# Altium footprint library F429_F746_F767_MB.PcbLib: 52 footprints (part 1 of 4)
Each footprint in its own frame and in the unit in brackets; x right, y up, seen from the top. Pads: shape width x height; smd on the part's side, far side on the other; paste and mask are expansions set on the pad; w line width, h text height; cw(c..) or ccw(c..) is an arc to the next point about the centre after c.
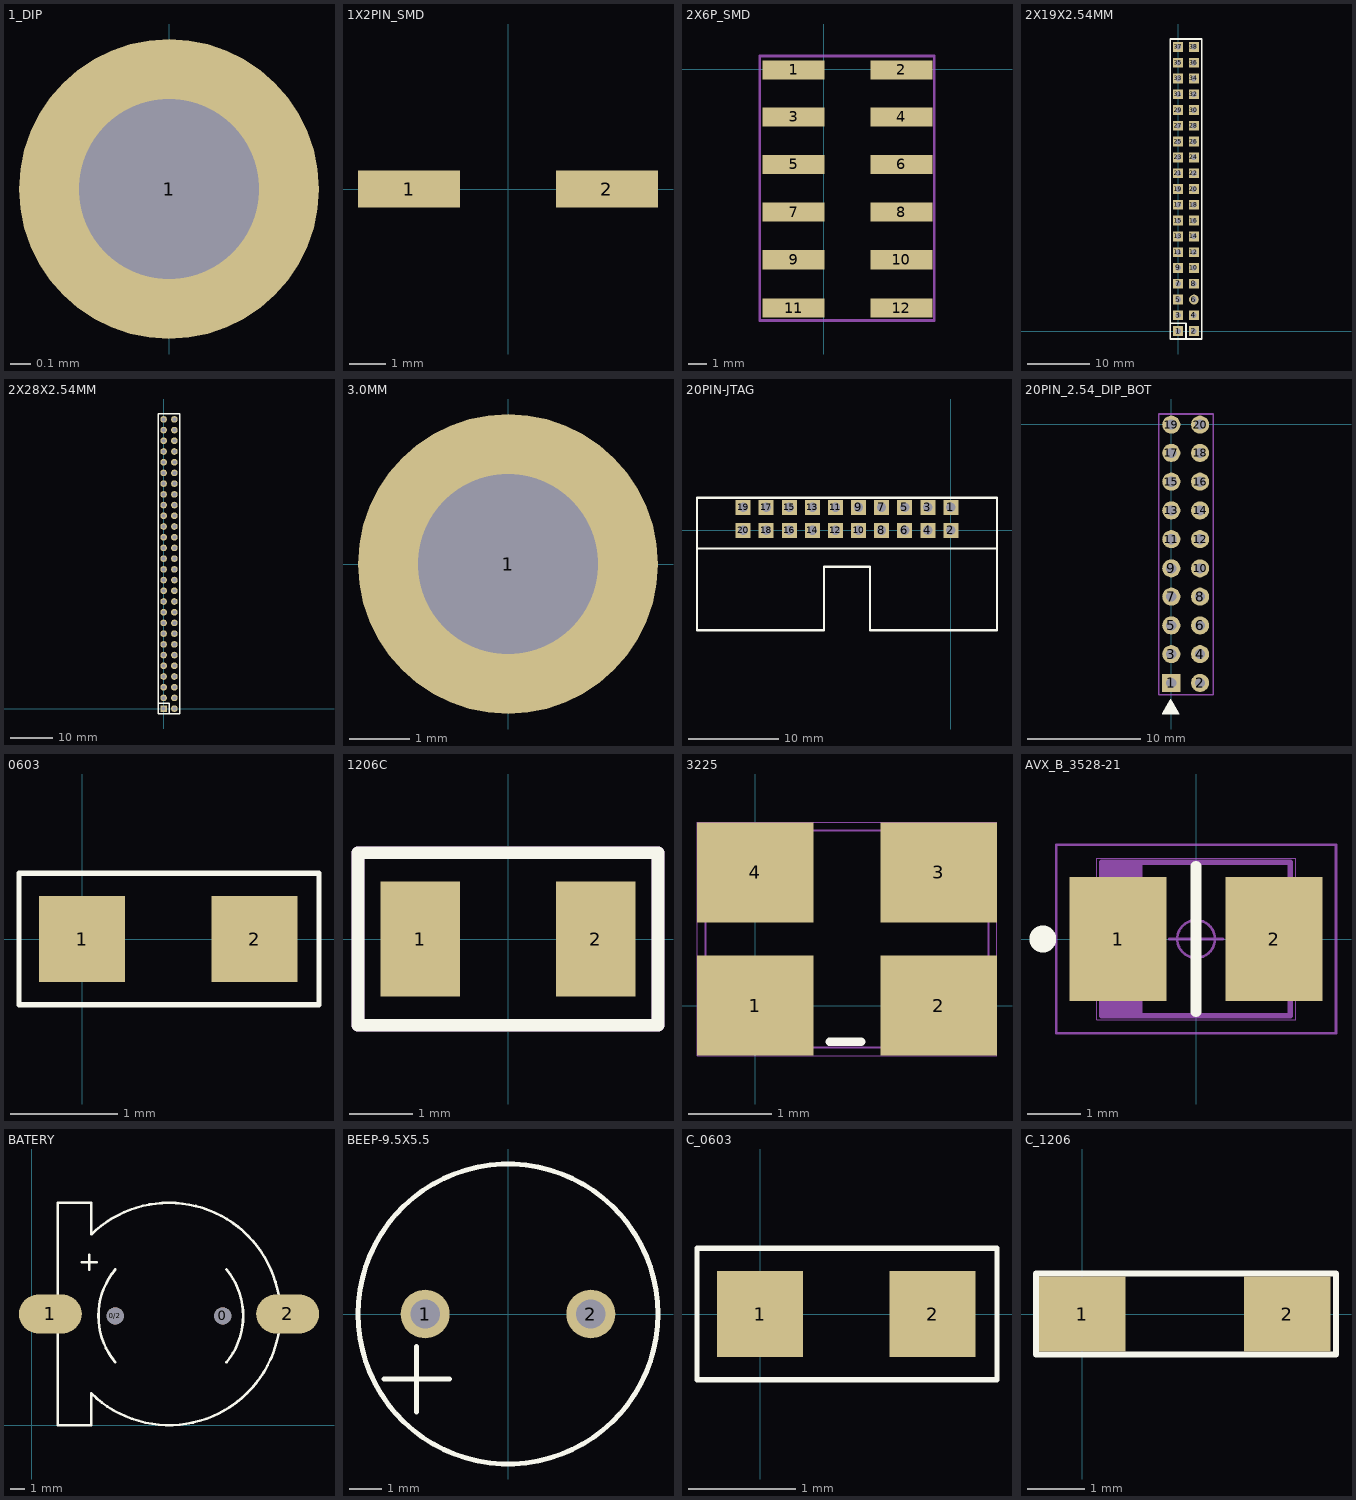
[diagram p0: the footprints below, top view; thin cyan lines are the x and y axes]

## 1_DIP [mm]
pads (1):
  round 1.5 hole 0.9: 1(0,1.6)

## 1X2PIN_SMD [mm]
pads (2):
  rect 2.8x1.02 smd: 1(-2.715,0.011) 2(2.715,0.011)

## 2X6P_SMD [mm]
pads (12):
  rect 3.3x1.02 smd: 1(-1.6,-0.04) 2(4.15,-0.04) 3(-1.6,-2.54) 4(4.15,-2.54) 5(-1.6,-5.08) 6(4.15,-5.08) 7(-1.6,-7.62) 8(4.15,-7.62) 9(-1.6,-10.16) 10(4.15,-10.16) 11(-1.6,-12.74) 12(4.15,-12.74)
Mechanical 1:
  lines w0.15: -3.4,-13.4 5.9,-13.4 5.9,0.7 -3.4,0.7 -3.4,-13.4

## 2X19X2.54MM [mil]
pads (38):
  rect 62x62 hole 35.43: 1(0,0) 2(100,0) 3(0,100) 4(100,100) 5(0,200) 7(0,300) 8(100,300) 9(0,400) 10(100,400) 11(0,500) 12(100,500) 13(0,600) 14(100,600) 15(0,700) 16(100,700) 17(0,800) 18(100,800) 19(0,900) 20(100,900) 21(0,1000) 22(100,1000) 23(0,1100) 24(100,1100) 25(0,1200) 26(100,1200) 27(0,1300) 28(100,1300) 29(0,1400) 30(100,1400) 31(0,1500) 32(100,1500) 33(0,1600) 34(100,1600) 35(0,1700) 36(100,1700) 37(0,1800) 38(100,1800)
  round 62 hole 35.43: 6(100,200)
Top Overlay:
  lines w12: -50,50 50,50 50,-50 ; -50,-50 150,-50 150,1850 -50,1850 -50,-50

## 2X28X2.54MM [mil]
pads (56):
  rect 62x62 hole 35.43: 1(0,0)
  round 62 hole 35.43: 2(100,0) 3(0,100) 4(100,100) 5(0,200) 6(100,200) 7(0,300) 8(100,300) 9(0,400) 10(100,400) 11(0,500) 12(100,500) 13(0,600) 14(100,600) 15(0,700) 16(100,700) 17(0,800) 18(100,800) 19(0,900) 20(100,900) 21(0,1000) 22(100,1000) 23(0,1100) 24(100,1100) 25(0,1200) 26(100,1200) 27(0,1300) 28(100,1300) 29(0,1400) 30(100,1400) 31(0,1500) 32(100,1500) 33(0,1600) 34(100,1600) 35(0,1700) 36(100,1700) 37(0,1800) 38(100,1800) 39(0,1900) 40(100,1900) 41(0,2000) 42(100,2000) 43(0,2100) 44(100,2100) 45(0,2200) 46(100,2200) 47(0,2300) 48(100,2300) 49(0,2400) 50(100,2400) 51(0,2500) 52(100,2500) 53(0,2600) 54(100,2600) 55(0,2700) 56(100,2700)
Top Overlay:
  lines w12: -50,50 50,50 50,-50 ; -50,-50 150,-50 150,2750 -50,2750 -50,-50

## 3.0MM [mm]
pads (1):
  round 5 hole 3: 1(0,0)

## 20PIN-JTAG [mil]
pads (20):
  rect 65x65 hole 40: 1(0,100) 2(0,0) 3(-100,100) 4(-100,0) 5(-200,100) 6(-200,0) 7(-300,100) 8(-300,0) 9(-400,100) 10(-400,0) 11(-500,100) 12(-500,0) 13(-600,100) 14(-600,0) 15(-700,100) 16(-700,0) 17(-800,100) 18(-800,0) 19(-900,100) 20(-900,0)
Top Overlay:
  lines w10: -1100,-78.74 200,-78.74 ; -1100,-433.07 -550,-433.07 -550,-157.48 -350,-157.48 -350,-433.07 200,-433.07 200,141.26 -1100,141.26 -1100,-433.07

## 20PIN_2.54_DIP_BOT [mm]
pads (20):
  rect 1.6x1.6 hole 0.9: 1(0,-22.86)
  round 1.6 hole 0.9: 2(2.54,-22.86) 3(0,-20.32) 4(2.54,-20.32) 5(0,-17.78) 6(2.54,-17.78) 7(0,-15.24) 8(2.54,-15.24) 9(0,-12.74) 10(2.54,-12.74) 11(0,-10.16) 12(2.54,-10.16) 13(0,-7.62) 14(2.54,-7.62) 15(0,-5.08) 16(2.54,-5.08) 17(0,-2.54) 18(2.54,-2.54) 19(0,-0.04) 20(2.54,-0.04)
Top Overlay:
  drawing of 465 lines, arcs and shapes, not listed
Mechanical 1:
  lines w0.15: -1.1,-23.9 3.7,-23.9 3.7,0.9 -1.1,0.9 -1.1,-23.9

## 0603 [mm]
pads (2):
  rect 0.8x0.8 smd: 1(0,0) 2(1.6,0)
Top Overlay:
  lines w0.051: -0.584,-0.61 2.197,-0.61 2.197,0.61 -0.584,0.61 -0.584,-0.61

## 1206C [mil]
pads (2):
  rect 50x72 smd mask+5: 1(-55,0) 2(55,0)
Top Overlay:
  lines w7.87: -94,-54 94,-54 94,54 -94,54 -94,-54
Mechanical 1:
  lines w7.87: -94,-54 94,-54 94,54 -94,54 -94,-54
  text "C114" at -50,-32.91 h50.5
Mechanical 16:
  lines w6: -94,-54 94,-54 94,54 -94,54 -94,-54

## 3225 [mm]
pads (4):
  rect 1.4x1.2 smd paste-0.06 mask+0.05: 1(0,0) 2(2.2,0) 3(2.2,1.6) 4(0,1.6)
Top Overlay:
  lines w0.1: 0.889,-0.432 1.27,-0.432
Mechanical 16:
  lines w0.003: -0.7,-0.6 2.9,-0.6 2.9,2.2 -0.7,2.2 -0.7,-0.6
  lines w0.025: -0.6,-0.5 2.8,-0.5 2.8,2.1 -0.6,2.1 -0.6,-0.5

## AVX_B_3528-21 [mm]
height 1.9
pads (2):
  rect 1.8x2.3 smd: 1(-1.45,0) 2(1.45,0)
Top Overlay:
  circle w0.25: c-2.85,0 r0.125
  lines w0.2: 0,-1.35 0,1.35
Mechanical 1:
  lines w0.1: -1.65,-1.425 -1.65,1.425 ; -1.55,-1.425 -1.55,1.425 ; -1.45,-1.425 -1.45,1.425 ; -1.35,-1.425 -1.35,1.425 ; -1.25,-1.425 -1.25,1.425 ; -1.15,-1.425 -1.15,1.425 ; -1.05,-1.425 -1.05,1.425 ; -1.75,-1.425 1.75,-1.425 1.75,1.425 -1.75,1.425 -1.75,-1.425
Mechanical 16:
  circle w0.05: c0,0 r0.35
  lines w0.001: -1.85,-1.5 1.85,-1.5 1.85,1.5 -1.85,1.5 -1.85,-1.5
  lines w0.05: -0.5,0 0.5,0 ; 0,-0.5 0,0.5 ; -2.6,-1.75 2.6,-1.75 2.6,1.75 -2.6,1.75 -2.6,-1.75

## BATERY [mil]
pads (4):
  round 46 hole 46: 0(515,295) 0/2(225,295)
  oval 169.29x106.3 smd: 1(50,300) 2(690,300)
Top Overlay:
  lines w7: 135,440 175,440 ; 155,420 155,460 ; 160.38,514.61 160,600 70,600 70,300 70,0 160,0 160.38,85.39 ccw(c369.95,300.13) 668.2,267.21 ; 160.43,514.66 cw(c370.07,299.83) 370.07,600 ; 224.75,170.3 cw(c374.95,295) 224.97,419.96 ; 369.94,600 cw(c369.94,299.93) 668.19,332.86 ; 525.04,170.05 ccw(c375.08,295) 525.04,419.95

## BEEP-9.5X5.5 [mm]
pads (2):
  round 1.5 hole 0.9: 1(-2.54,0) 2(2.54,0)
Top Overlay:
  circle w0.152: c0,0 r4.6
  lines w0.152: -3.8,-2 -1.8,-2 ; -2.8,-3 -2.8,-1

## C_0603 [mm]
pads (2):
  rect 0.8x0.8 smd: 1(0,0) 2(1.6,0)
Top Overlay:
  lines w0.051: -0.584,-0.61 2.197,-0.61 2.197,0.61 -0.584,0.61 -0.584,-0.61

## C_1206 [mm]
pads (2):
  rect 1.5x1.3 smd: 1(0,0) 2(3.556,0)
Top Overlay:
  lines w0.1: -0.8,-0.7 -0.8,0.7 4.4,0.7 4.4,-0.7 -0.8,-0.7